# EAGLE library part MIC210X (library Eagle_CAD_parts)
IC REG CTRLR BUCK
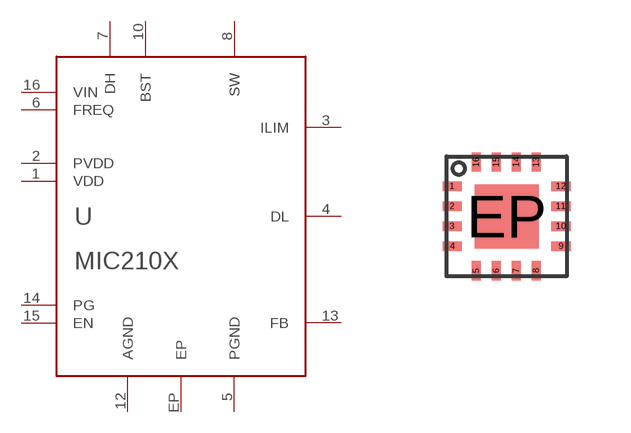
[diagram p21: symbol with the pads of 16-VQFN; footprint 16-VQFN]

Designator prefix U

## MIC210X_MIC2104 (DIGIKEY_PART_NUMBER: 576-4157-1-ND; MANUFACTURER_PART_NUMBER: MIC2104YML-TR)  [16-VQFN]
1  VDD
2  PVDD
3  ILIM
4  DL
5  PGND
6  FREQ
7  DH
8  SW
10  BST
12  AGND
13  FB
14  PG
15  EN
16  VIN
EP  EP

## Footprint 16-VQFN (pad centres in mm)
smd 0.48 x 0.23: 1 -1.36,0.75; 2 -1.36,0.25; 3 -1.36,-0.25; 4 -1.36,-0.75; 9 1.36,-0.75; 10 1.36,-0.25; 11 1.36,0.25; 12 1.36,0.75
smd 0.23 x 0.48: 5 -0.755,-1.36; 6 -0.255,-1.36; 7 0.245,-1.36; 8 0.745,-1.36; 13 0.745,1.36; 14 0.245,1.36; 15 -0.255,1.36; 16 -0.755,1.36
smd 1.6 x 1.6: EP 0,0